# Altium schematic symbol library PGA17057.SchLib: 3 symbols
Pins are listed as number, name and electrical type; pins without a type are passive.

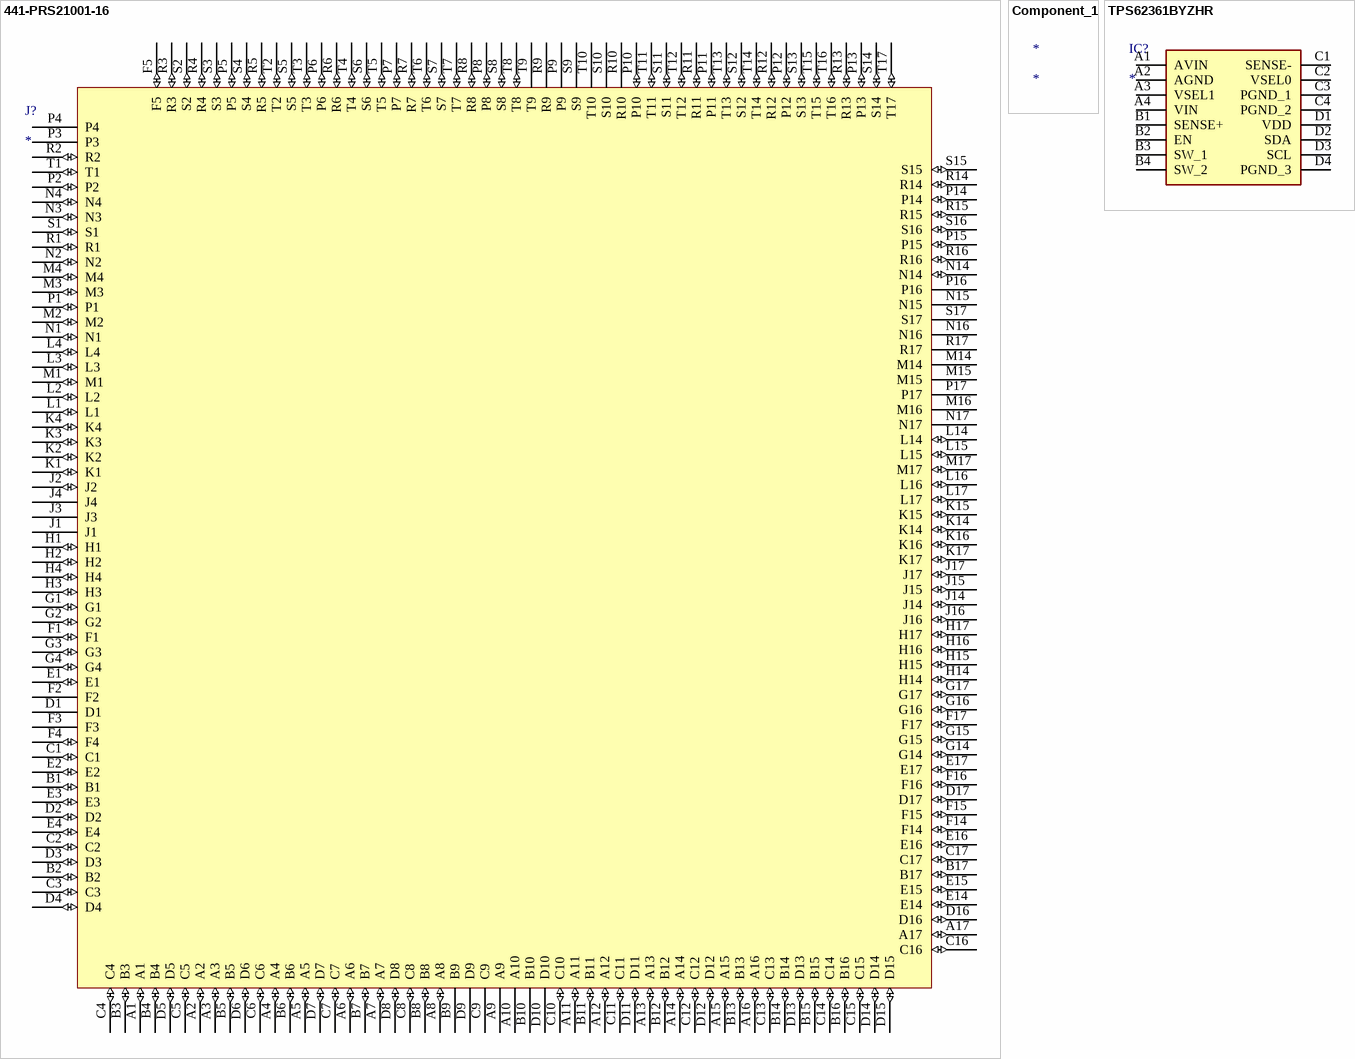
[diagram p0: symbols 441-PRS21001-16 to TPS62361BYZHR]

## 441-PRS21001-16
designator J?
Connector; Manufacturer_Name: ARIES; Manufacturer_Part_Number: 441-PRS21001-16; Datasheet Link: https://www.mouser.it/datasheet/2/35/10004_pga_zif_test_and_burn_in_socket-1225760.pdf; Height: 10.92mm; Mouser Part Number: 535-441-PRS21001-16; Mouser Price/Stock: https://www.mouser.co.uk/ProductDetail/Aries-Electronics/441-PRS21001-16?qs=qSpSzuzdqG3uVfRDOHdDNQ%3D%3D
footprint 441PRS2100116
pins: A1 (io), A2 (io), A3 (io), A4 (io), A5 (io), A6 (io), A7 (io), A8 (io), A9 (power), A10 (power), A11 (io), A12 (io), A13 (io), A14 (io), A15 (io), A16 (io), A17 (io), B1 (io), B2 (io), B3 (io), B4 (io), B5 (io), B6 (io), B7 (io), B8 (io), B9 (power), B10 (power), B11 (io), B12 (io), B13 (io), B14 (io), B15 (io), B16 (io), B17 (io), C1 (io), C2 (io), C3 (io), C4 (io), C5 (io), C6 (io), C7 (io), C8 (io), C9 (power), C10 (io), C11 (io), C12 (io), C13 (io), C14 (io), C15 (io), C16 (io), C17 (io), D1 (power), D2 (io), D3 (io), D4 (io), D5 (io), D6 (io), D7 (io), D8 (io), D9 (power), D10 (power), D11 (io), D12 (io), D13 (io), D14 (io), D15 (io), D16 (io), D17 (io), E1 (io), E2 (io), E3 (io), E4 (io), E14 (io), E15 (io), E16 (io), E17 (io), F1 (io), F2 (power), F3 (power), F4 (io), F5 (io), F14 (io), F15 (io), F16 (io), F17 (io), G1 (io), G2 (io), G3 (io), G4 (io), G14 (io), G15 (io), G16 (io), G17 (io), H1 (io), H2 (io), H3 (io), H4 (io), H14 (io), H15 (io), H16 (io), H17 (io), J1 (power), J2 (io), J3 (power), J4 (power), J14 (io), J15 (io), J16 (io), J17 (io), K1 (io), K2 (io), K3 (io), K4 (io), K14 (io), K15 (io), K16 (io), K17 (io), L1 (io), L2 (io), L3 (io), L4 (io), L14 (io), L15 (io), L16 (io), L17 (io), M1 (io), M2 (io), M3 (io), M4 (io), M14 (power), M15 (power), M16 (power), M17 (io), N1 (io), N2 (io), N3 (io), N4 (io), N14 (io), N15 (power), N16 (power), N17 (power), P1 (io), P2 (io), P3 (power), P4 (power), P5 (io), P6 (io), P7 (io), P8 (io), P9 (power), P10 (io), P11 (io), P12 (io), P13 (io), P14 (io), P15 (io), P16 (power), P17 (power), R1 (io), R2 (io), R3 (io), R4 (io), R5 (io), R6 (io), R7 (io), R8 (io), R9 (power), R10 (power), R11 (io), R12 (io), R13 (io), R14 (io), R15 (io), R16 (io), R17 (power), S1 (io), S2 (io), S3 (io), S4 (io), S5 (io), S6 (io), S7 (io), S8 (io), S9 (power), S10 (power), S11 (io), S12 (io), S13 (io), S14 (io), S15 (io), S16 (io), S17 (power), T1 (io), T2 (io), T3 (io), T4 (io), T5 (io), T6 (io), T7 (io), T8 (io), T9 (power), T10 (power), T11 (io), T12 (io), T13 (io), T14 (io), T15 (io), T16 (io), T17 (io)

## Component_1
designator *

## TPS62361BYZHR
designator IC?
Integrated Circuit; Manufacturer_Name: Texas Instruments; Manufacturer_Part_Number: TPS62361BYZHR; Datasheet Link: http://www.ti.com/lit/gpn/tps62361b; Height: 0.625mm
footprint BGA16C50P4X4_206X206X62
pins: A1 AVIN, A2 AGND, A3 VSEL1, A4 VIN, B1 SENSE+, B2 EN, B3 SW_1, B4 SW_2, C1 SENSE-, C2 VSEL0, C3 PGND_1, C4 PGND_2, D1 VDD, D2 SDA, D3 SCL, D4 PGND_3